# EAGLE library part CC1101_MODULE (library Custom)
PIN HEADER
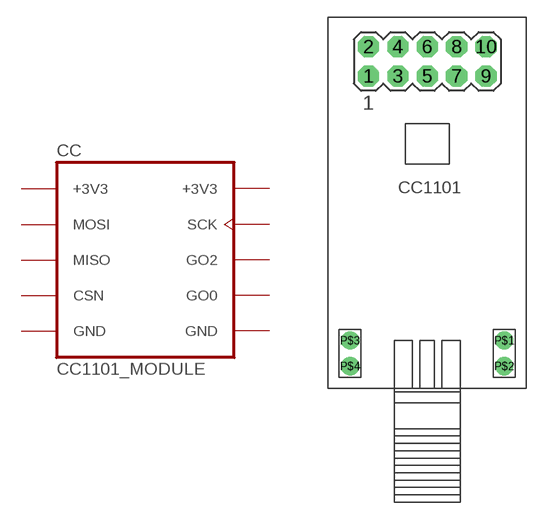
[diagram p58: symbol with the pads of CC1101_MOD_PAC; footprint CC1101_MOD_PAC]

Designator prefix CC

## CC1101_MODULE (OC_FARNELL: unknown; OC_NEWARK: unknown)  [CC1101_MOD_PAC]
1  GND  pwr
2  GND  pwr
3  GO0
4  CSN  in
5  GO2  in
6  MISO  out
7  SCK  in
8  MOSI  in
9  +3V3  pwr
10  +3V3  pwr

## Footprint CC1101_MOD_PAC (pad centres in mm)
PIN HEADER
drill 1.016 pad 1.829 octagon: 1 -5.08,-1.27; 2 -5.08,1.27; 3 -2.54,-1.27; 4 -2.54,1.27; 5 0,-1.27; 6 0,1.27; 7 2.54,-1.27; 8 2.54,1.27; 9 5.08,-1.27; 10 5.08,1.27
drill 0.6 pad 1.575: P$1 6.668,-24.13; P$2 6.668,-26.352; P$3 -6.668,-24.13; P$4 -6.668,-26.352